# EAGLE library part 613034216921 (library Eagle_BOARD-TO-BOARD_CONNECTORS (rev18b))
WR-PHD 2.54mm Dual S. Header Bottom Entry Large, 34 Pins=>Code : Con_BTB_SHD_2.54_2_613034216921 <http://katalog.we-online.de/media/images/eican/Con_BTB_SHD_2.54_2_6130xx216921_pf2.jpg> Details see: http://katalog.we-online.de/en/em/613_0xx_216_921 Created 2014-05-30, Karrer Zheng 2014 (C) Würth Elektronik
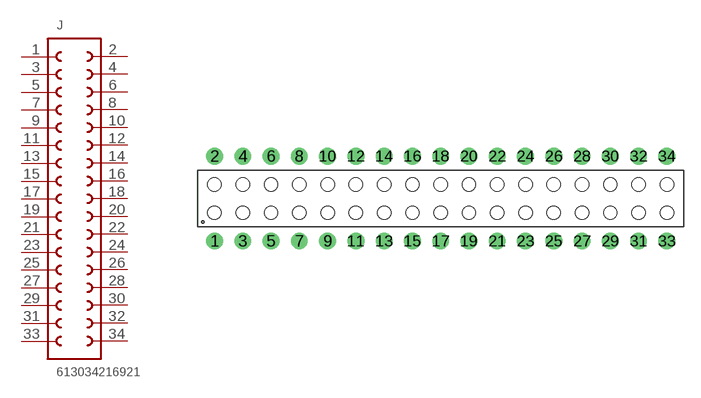
[diagram p175: symbol with the pads of 613034216921; footprint 613034216921]

Designator prefix J

## 613034216921  [613034216921]
1  1  pas
2  34  pas
3  2  pas
4  33  pas
5  3  pas
6  32  pas
7  4  pas
8  31  pas
9  5  pas
10  30  pas
11  6  pas
12  29  pas
13  7  pas
14  28  pas
15  8  pas
16  27  pas
17  9  pas
18  26  pas
19  10  pas
20  25  pas
21  11  pas
22  24  pas
23  12  pas
24  23  pas
25  13  pas
26  22  pas
27  14  pas
28  21  pas
29  15  pas
30  20  pas
31  16  pas
32  19  pas
33  17  pas
34  18  pas

## Footprint 613034216921 (pad centres in mm)
WR-PHD 2.54mm Dual S. Header Bottom Entry Large, 34 Pins
drill 1: 1 -20.32,-3.81; 2 -20.32,3.81; 3 -17.78,-3.81; 4 -17.78,3.81; 5 -15.24,-3.81; 6 -15.24,3.81; 7 -12.7,-3.81; 8 -12.7,3.81; 9 -10.16,-3.81; 10 -10.16,3.81; 11 -7.62,-3.81; 12 -7.62,3.81; 13 -5.08,-3.81; 14 -5.08,3.81; 15 -2.54,-3.81; 16 -2.54,3.81; 17 0,-3.81; 18 0,3.81; 19 2.54,-3.81; 20 2.54,3.81; 21 5.08,-3.81; 22 5.08,3.81; 23 7.62,-3.81; 24 7.62,3.81; 25 10.16,-3.81; 26 10.16,3.81; 27 12.7,-3.81; 28 12.7,3.81; 29 15.24,-3.81; 30 15.24,3.81; 31 17.78,-3.81; 32 17.78,3.81; 33 20.32,-3.81; 34 20.32,3.81
hole 1.2 at -20.32,1.27
hole 1.2 at -17.78,1.27
hole 1.2 at -17.78,-1.27
hole 1.2 at -20.32,-1.27
hole 1.2 at -15.24,1.27
hole 1.2 at -15.24,-1.27
hole 1.2 at -12.7,-1.27
hole 1.2 at -12.7,1.27
hole 1.2 at -10.16,1.27
hole 1.2 at -10.16,-1.27
hole 1.2 at -7.62,-1.27
hole 1.2 at -7.62,1.27
hole 1.2 at -5.08,1.27
hole 1.2 at -2.54,1.27
hole 1.2 at -5.08,-1.27
hole 1.2 at -2.54,-1.27
hole 1.2 at 0,1.27
hole 1.2 at 0,-1.27
hole 1.2 at 2.54,1.27
hole 1.2 at 2.54,-1.27
hole 1.2 at 5.08,1.27
hole 1.2 at 5.08,-1.27
hole 1.2 at 7.62,1.27
hole 1.2 at 7.62,-1.27
hole 1.2 at 10.16,1.27
hole 1.2 at 10.16,-1.27
hole 1.2 at 12.7,1.27
hole 1.2 at 15.24,1.27
hole 1.2 at 12.7,-1.27
hole 1.2 at 15.24,-1.27
hole 1.2 at 17.78,1.27
hole 1.2 at 17.78,-1.27
hole 1.2 at 20.32,1.27
hole 1.2 at 20.32,-1.27